# EAGLE library part HKFP012-1X5 (library mylib)
Relay 45A DC for Automotive with 12V coil
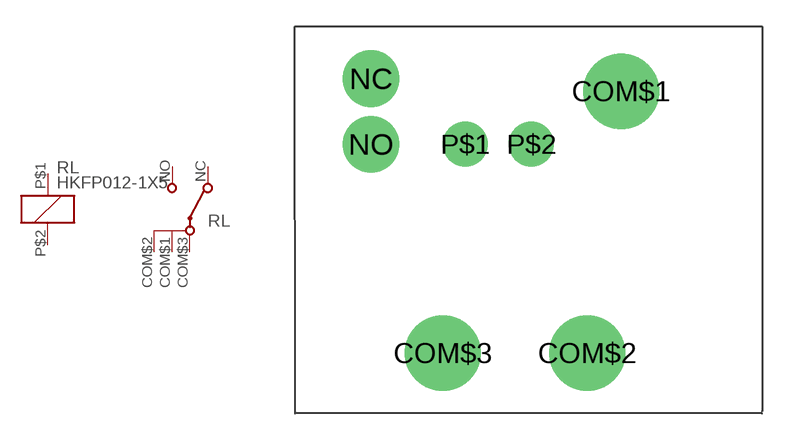
[diagram p3: symbol with the pads of HFKP-1X5; footprint HFKP-1X5]

Designator prefix RL; gates G$1=K G$2=U3

## HKFP012-1X5  [HFKP-1X5]
COM$1  G$2:P1  pas
COM$2  G$2:P2  pas
COM$3  G$2:P3  pas
NC  G$2:O  pas
NO  G$2:S  pas
P$1  G$1:1  pas
P$2  G$1:2  pas

## Footprint HFKP-1X5 (pad centres in mm)
drill 2.7 pad 4.3: COM$1 14.2,14.88; COM$2 12.28,0; COM$3 4.08,0
drill 2.2 pad 3.1: NC 0,15.6; NO 0,11.87
drill 1.7: P$1 5.35,11.87; P$2 9.1,11.87